# Altium footprint library DO-214AC.PcbLib: 1 footprints
Each footprint in its own frame and in the unit in brackets; x right, y up, seen from the top. Pads: shape width x height; smd on the part's side, far side on the other; paste and mask are expansions set on the pad; w line width, h text height; cw(c..) or ccw(c..) is an arc to the next point about the centre after c.
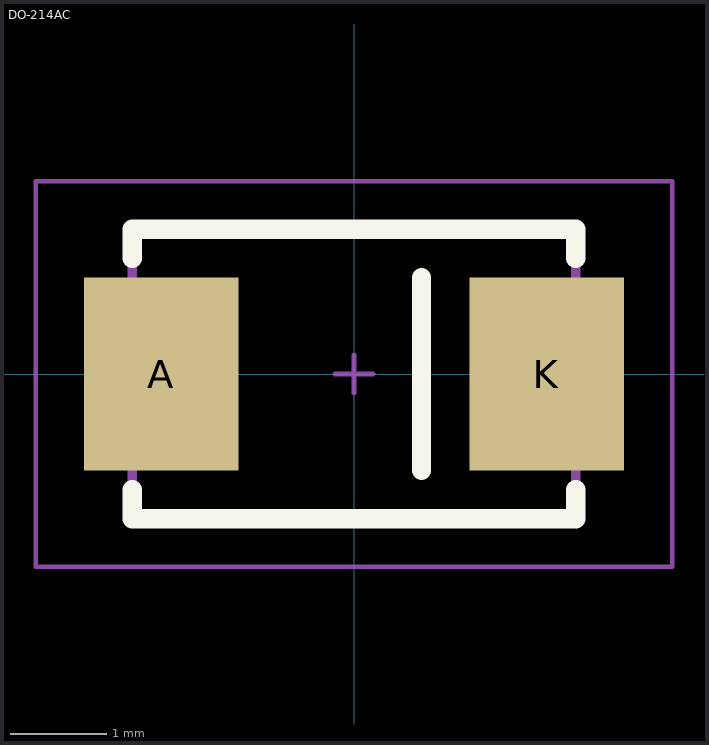
[diagram p0: the footprint, top view; thin cyan lines are the x and y axes]

## DO-214AC [mm]
pads (2):
  rect 1.6x2 smd: A(-2,0) K(2,0)
Top Overlay:
  lines w0.2: -2.3,-1.2 -2.3,-1.5 2.3,-1.5 2.3,-1.2 ; -2.3,1.2 -2.3,1.5 2.3,1.5 2.3,1.2 ; 0.7,-1 0.7,1
Mechanical 13:
  lines w0.1: -2.3,-0.7 -2.6,-0.7 -2.6,0.7 -2.3,0.7 ; 2.3,-0.7 2.6,-0.7 2.6,0.7 2.3,0.7 ; -2.3,-1.5 -2.3,1.5 2.3,1.5 2.3,-1.5 -2.3,-1.5
Mechanical 15:
  lines w0.05: -0.2,0 0.2,0 ; 0,-0.2 0,0.2 ; -3.3,-2 -3.3,2 3.3,2 3.3,-2 -3.3,-2
3D body: height 2.5, standoff 0, extent -2.299,-1.499 2.299,1.499
3D body: height 1, standoff 0, extent 2.301,-0.699 2.599,0.699
3D body: height 1, standoff 0, extent -2.599,-0.699 -2.301,0.699